# EAGLE library part MCP73871T-2CCI_ML (library MCP73871T-2CCI_ML)
MICROCHIP - MCP73871T-2CCI/ML - Battery Charger, 1 Cell of Li-Ion, Li-Pol Battery, 6V Input, 4.2V/1A Charge, QFN-20 Source: Datasheet <https://ms.componentsearchengine.com/Datasheets/2/MCP73871T-2CCI_ML.pdf>
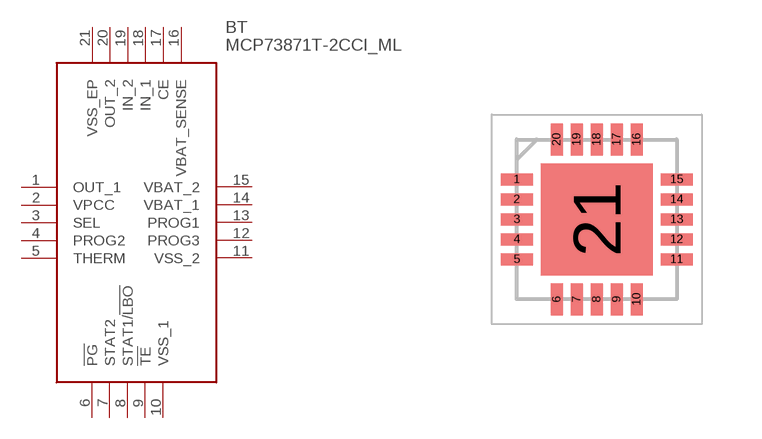
[diagram p0: symbol with the pads of QFN50P400X400X100-21N; footprint QFN50P400X400X100-21N]

Designator prefix BT

## MCP73871T-2CCI_ML (Arrow_Part_Number: MCP73871T-2CCI/ML; Arrow_Price-Stock: https://www.arrow.com/en/products/mcp73871t-2cciml/microchip-technology?region=nac; Description: MICROCHIP - MCP73871T-2CCI/ML - Battery Charger, 1 Cell of Li-Ion, Li-Pol Battery, 6V Input, 4.2V/1A Charge, QFN-20; Height: 1mm; Manufacturer_Name: Microchip; Manufacturer_Part_Number: MCP73871T-2CCI/ML; Mouser_Part_Number: 579-MCP73871T2CCIML; Mouser_Price-Stock: https://www.mouser.co.uk/ProductDetail/Microchip-Technology-Atmel/MCP73871T-2CCI-ML?qs=qXsUupcbpXwuQ8z0ISUvDA%3D%3D)  [QFN50P400X400X100-21N]
1  OUT_1  out
2  VPCC
3  SEL
4  PROG2
5  THERM
6  !PG
7  STAT2
8  STAT1/!LBO
9  !TE
10  VSS_1  pwr
11  VSS_2  pwr
12  PROG3
13  PROG1
14  VBAT_1
15  VBAT_2
16  VBAT_SENSE
17  CE
18  IN_1  in
19  IN_2  in
20  OUT_2  out
21  VSS_EP  pwr

## Footprint QFN50P400X400X100-21N (pad centres in mm)
20-Lead QFN (ML)
smd 0.8 x 0.3: 1 -2,1; 2 -2,0.5; 3 -2,0; 4 -2,-0.5; 5 -2,-1; 11 2,-1; 12 2,-0.5; 13 2,0; 14 2,0.5; 15 2,1
smd 0.3 x 0.8: 6 -1,-2; 7 -0.5,-2; 8 0,-2; 9 0.5,-2; 10 1,-2; 16 1,2; 17 0.5,2; 18 0,2; 19 -0.5,2; 20 -1,2
smd 2.8 x 2.8: 21 0,0